# Altium schematic symbol library ADC_DAC.SchLib: 3 symbols
Pins are listed as number, name and electrical type; pins without a type are passive.

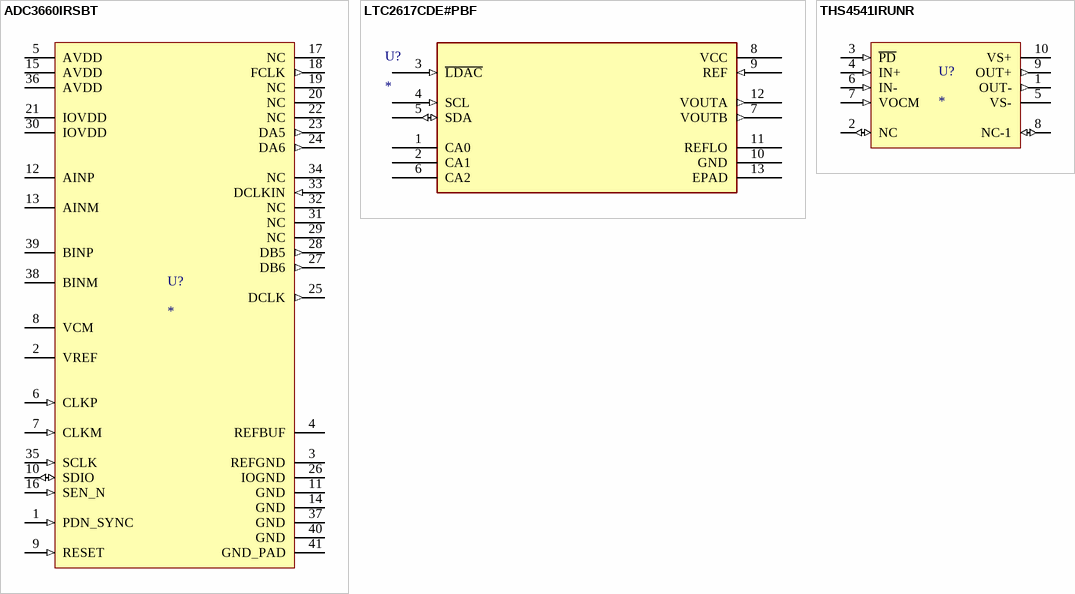
[diagram p0: symbols ADC3660IRSBT to THS4541IRUNR]

## ADC3660IRSBT
designator U?
65MSPS 2-channel ADC, 16-20bit; Mfr_Name: Texas Instruments; TYPE: TYPE; RefDes: RefDes
footprint RSB0040E-IPC_B
pins: 1 PDN_SYNC (in), 2 VREF, 3 REFGND (power), 4 REFBUF, 5 AVDD (power), 6 CLKP (in), 7 CLKM (in), 8 VCM, 9 RESET (in), 10 SDIO (io), 11 GND (power), 12 AINP, 13 AINM, 14 GND (power), 15 AVDD (power), 16 SEN_N (in), 17 NC, 18 FCLK (out), 19 NC, 20 NC, 21 IOVDD (power), 22 NC, 23 DA5 (out), 24 DA6 (out), 25 DCLK (out), 26 IOGND (power), 27 DB6 (out), 28 DB5 (out), 29 NC, 30 IOVDD (power), 31 NC, 32 NC, 33 DCLKIN (in), 34 NC, 35 SCLK (in), 36 AVDD (power), 37 GND (power), 38 BINM, 39 BINP, 40 GND (power), 41 GND_PAD (power)

## LTC2617CDE#PBF
designator U?
14-bit DAC; MF: {'manufacturer': u'Analog Devices'}; MP: LTC2617CDE#PBF; Package: None; Price: None; Value: *; Availability: Unavailable
footprint DFN-12_DE
pins: 1 CA0, 2 CA1, 3 ~{LDAC} (in), 4 SCL (in), 5 SDA (io), 6 CA2, 7 VOUTB (out), 8 VCC (power), 9 REF (in), 10 GND (power), 11 REFLO, 12 VOUTA (out), 13 EPAD

## THS4541IRUNR
designator U?
The THS4541 is a low-power, voltage-feedback, fully / differential amplifie. 1500V/us slew rate; MF: {'manufacturer': u'Texas Instruments'}; MP: THS4541IRUNR; Package: None; Price: None; Value: *; Availability: Unavailable
footprint QFN50P200X200X80-10N
pins: 1 OUT- (out), 2 NC (io), 3 ~{PD} (in), 4 IN+ (in), 5 VS- (power), 6 IN- (in), 7 VOCM (in), 8 NC-1 (io), 9 OUT+ (out), 10 VS+ (power)